# Altium footprint library PCB - PASSIV - IND - WE-TPC 2828 - Kopie.PcbLib: 1 footprints
Each footprint in its own frame and in the unit in brackets; x right, y up, seen from the top. Pads: shape width x height; smd on the part's side, far side on the other; paste and mask are expansions set on the pad; w line width, h text height; cw(c..) or ccw(c..) is an arc to the next point about the centre after c.
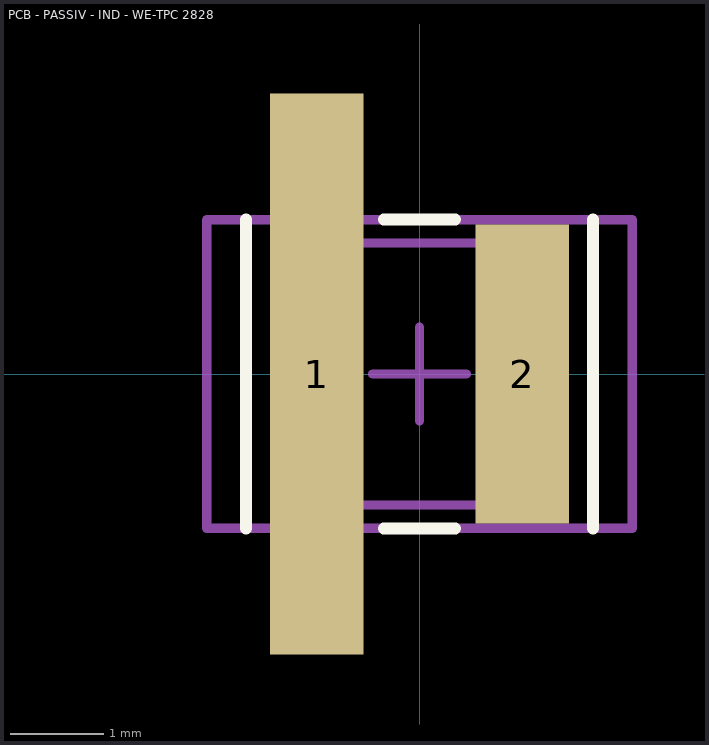
[diagram p0: the footprint, top view; thin cyan lines are the x and y axes]

## PCB - PASSIV - IND - WE-TPC 2828 [mm]
height 2.8
pads (2):
  rect 1x6 smd: 1(-1.1,0)
  rect 1x3.2 smd: 2(1.1,0)
Top Overlay:
  lines w0.125: -1.854,-1.651 -1.854,1.651 ; -0.381,-1.651 0.381,-1.651 ; -0.381,1.651 0.381,1.651 ; 1.854,-1.651 1.854,1.651
Mechanical 13:
  lines w0.1: -1.4,-1.4 1.4,-1.4 1.4,1.4 -1.4,1.4 -1.4,-1.4
Mechanical 15:
  lines w0.1: -0.5,0 0.5,0 ; 0,-0.5 0,0.5 ; -2.275,-1.65 2.275,-1.65 2.275,1.65 -2.275,1.65 -2.275,-1.65
3D body: height 2.8, standoff 0, extent -1.4,-1.4 1.4,1.4